# Altium footprint library HLK7628N.PcbLib: 1 footprints
Each footprint in its own frame and in the unit in brackets; x right, y up, seen from the top. Pads: shape width x height; smd on the part's side, far side on the other; paste and mask are expansions set on the pad; w line width, h text height; cw(c..) or ccw(c..) is an arc to the next point about the centre after c.
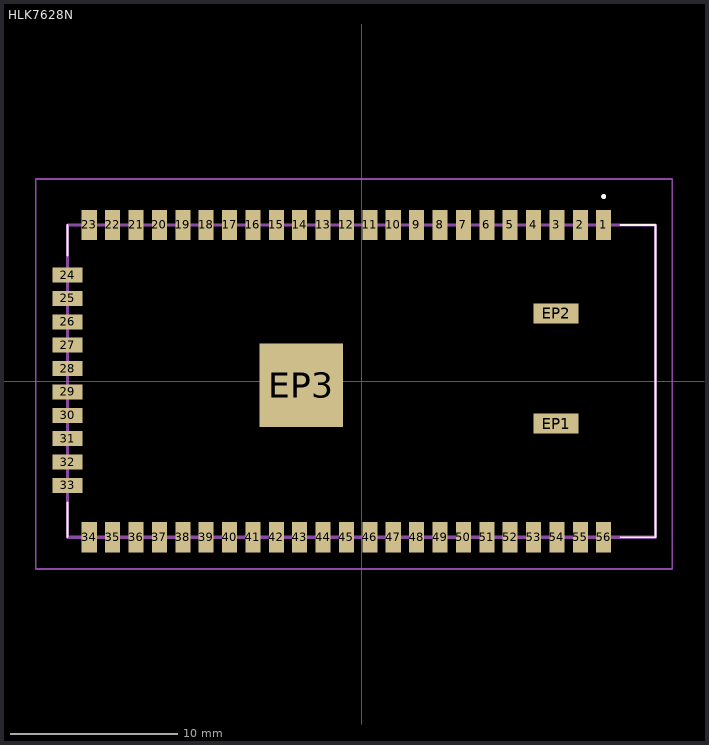
[diagram p0: the footprint, top view; thin cyan lines are the x and y axes]

## HLK7628N [mm]
pads (59):
  rect 0.9x1.8 smd: 1(14.5,9.35) 2(13.1,9.35) 3(11.7,9.35) 4(10.3,9.35) 5(8.9,9.35) 6(7.5,9.35) 7(6.1,9.35) 8(4.7,9.35) 9(3.3,9.35) 10(1.9,9.35) 11(0.5,9.35) 12(-0.9,9.35) 13(-2.3,9.35) 14(-3.7,9.35) 15(-5.1,9.35) 16(-6.5,9.35) 17(-7.9,9.35) 18(-9.3,9.35) 19(-10.7,9.35) 20(-12.1,9.35) 21(-13.5,9.35) 22(-14.9,9.35) 23(-16.3,9.35) 34(-16.3,-9.35) 35(-14.9,-9.35) 36(-13.5,-9.35) 37(-12.1,-9.35) 38(-10.7,-9.35) 39(-9.3,-9.35) 40(-7.9,-9.35) 41(-6.5,-9.35) 42(-5.1,-9.35) 43(-3.7,-9.35) 44(-2.3,-9.35) 45(-0.9,-9.35) 46(0.5,-9.35) 47(1.9,-9.35) 48(3.3,-9.35) 49(4.7,-9.35) 50(6.1,-9.35) 51(7.5,-9.35) 52(8.9,-9.35) 53(10.3,-9.35) 54(11.7,-9.35) 55(13.1,-9.35) 56(14.5,-9.35)
  rect 1.8x0.9 smd: 24(-17.6,6.35) 25(-17.6,4.95) 26(-17.6,3.55) 27(-17.6,2.15) 28(-17.6,0.75) 29(-17.6,-0.65) 30(-17.6,-2.05) 31(-17.6,-3.45) 32(-17.6,-4.85) 33(-17.6,-6.25)
  rect 2.7x1.2 smd: EP1(11.65,-2.55) EP2(11.65,4.05)
  rect 5x5 smd: EP3(-3.6,-0.25)
Top Overlay:
  lines w0.1: -17.6,-9.35 -17.6,-7.25 ; -17.6,-9.35 -17.6,-9.35 ; -17.6,-9.35 -17.6,-7.25 ; -17.6,-7.25 -17.6,-7.25 ; -17.6,7.5 -17.6,7.5 ; -17.6,7.5 -17.6,9.35 ; -17.6,7.5 -17.6,9.35 ; -17.6,9.35 -17.6,9.35 ; 15.5,-9.35 17.6,-9.35 ; 15.5,-9.35 17.6,-9.35 ; 15.5,-9.35 15.5,-9.35 ; 15.5,9.35 17.6,9.35 ; 15.5,9.35 15.5,9.35 ; 15.5,9.35 17.6,9.35 ; 17.6,-9.35 17.6,-9.35 ; 17.6,-9.35 17.6,-9.35 ; 17.6,-9.35 17.6,9.35 ; 17.6,-9.35 17.6,9.35 ; 17.6,9.35 17.6,9.35 ; 17.6,9.35 17.6,9.35
  lines w0.2: 14.5,11 cw(c14.5,11.05) 14.5,11.1 ; 14.5,11 14.5,11 ; 14.5,11 ccw(c14.5,11.05) 14.5,11.1 ; 14.5,11 ccw(c14.5,11.05) 14.5,11.1 ; 14.5,11.1 14.5,11.1 ; 14.5,11.1 14.5,11.1
Mechanical 15:
  lines w0.2: -17.6,-9.35 17.6,-9.35 17.6,9.35 -17.6,9.35 -17.6,-9.35
Mechanical 20:
  lines w0.1: -19.5,-11.25 18.6,-11.25 18.6,12.1 -19.5,12.1 -19.5,-11.25